# Altium integrated library Infineon_Power_Motor_Driver.IntLib: 100 symbols (part 7 of 7)
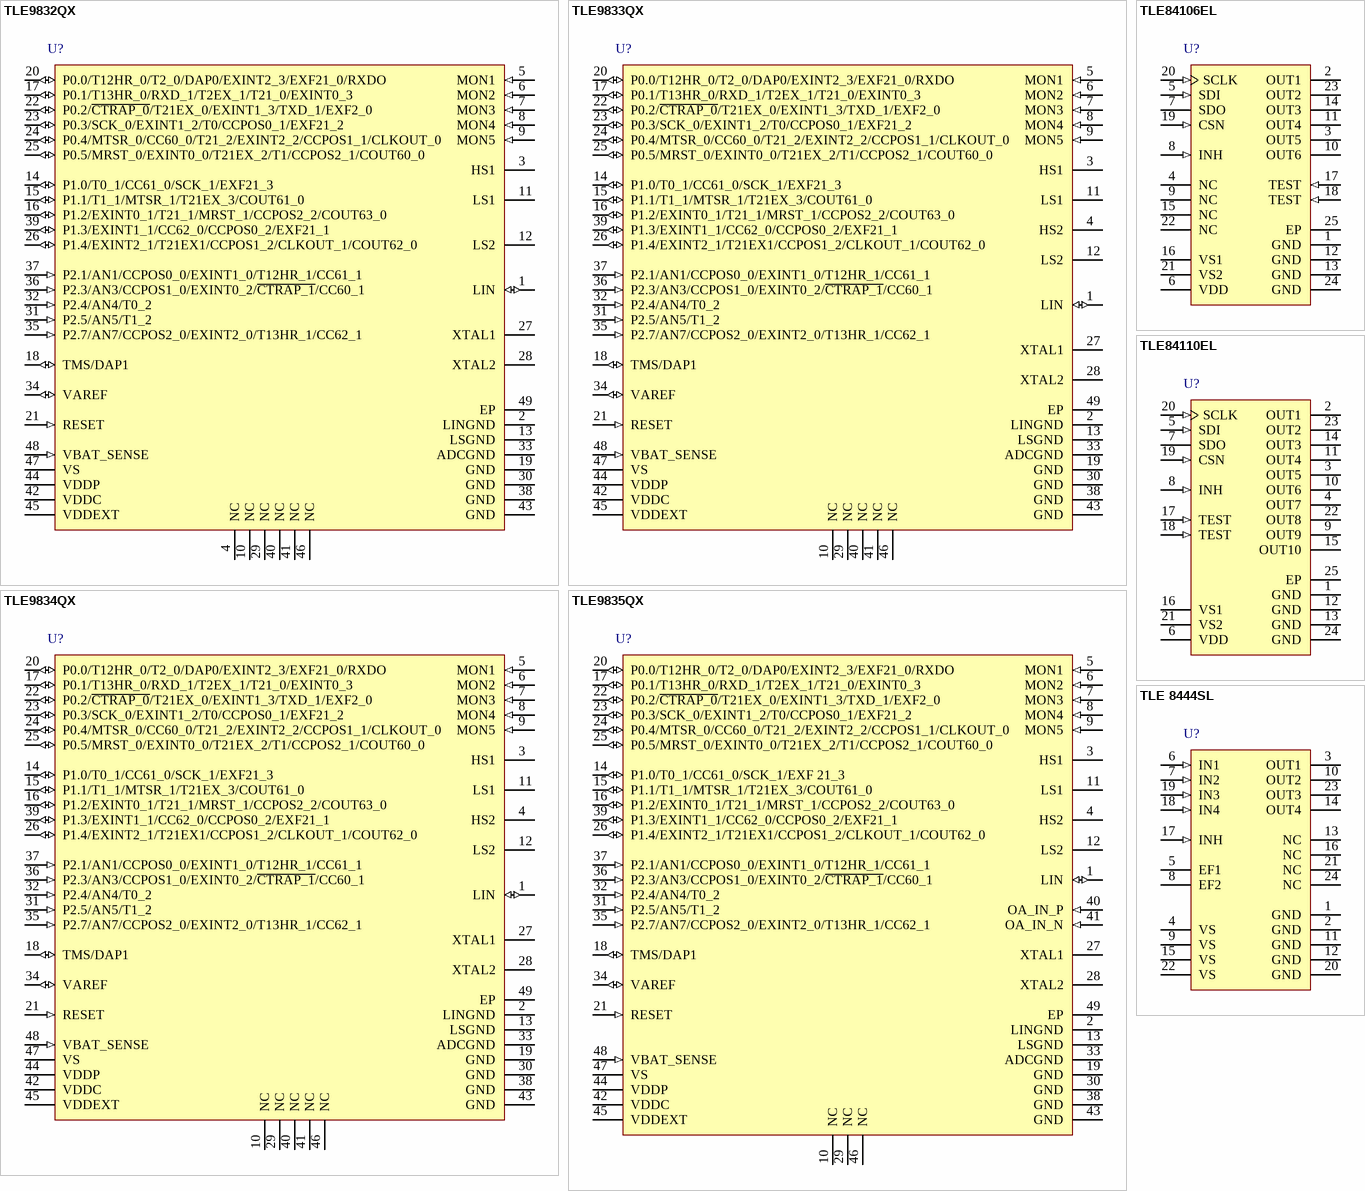
[diagram p10: symbols TLE9832QX to TLE 8444SL]

## TLE9835QX
designator U?
Microcontroller with LIN and Power Switches for Automotive Application, 2 High Side Switches, 11 GPIO, VQFN-48-29, Reel, Green; Manufacturer: Infineon; PartNumber: TLE9835QX; GPIO: 11; Frequency (f): 40 MHz; Green: TRUE; SOLID FLASH: 64 kByte; DatasheetVersion: Rev. 1.0; PackageVersion: Mar-12; PackageReference: VQFN-48-29; PackageDescription: 48-Pin Plastic (Green) Very Thin Profile Quad Flat Non Leaded Package, 7 x 7 mm Body, 0.5 mm Pitch; Halogen-free: TRUE; Packing: Reel; Mounting Technology: Surface Mount; ComponentLink1Description: Manufacturer URL; ComponentLink1URL: http://www.infineon.com/; ComponentLink2Description: Datasheet; ComponentLink2URL: http://www.infineon.com/dgdl/TLE9835QX-Data-Sheet-10-Infineon.pdf?folderId=db3a304316f66ee801178237ed131de3&fileId=db3a304339536e1401396d3dba642155&location=en.Products.Automotive_ICs.Embedded_Power_ICs_.DATASHEET.TLE9835QX-Data-Sheet-10-Infineon.pdf; ComponentLink3Description: Package Specification; ComponentLink3URL: http://www.infineon.com/dgdl/TLE9832-2-Data-Sheet-11-Infineon.pdf?folderId=db3a304316f66ee801178237ed131de3&fileId=db3a30433784a0400137a1c845733cec&location=en.Products.Automotive_ICs.Embedded_Power_ICs_.DATASHEET.TLE9832-2-Data-Sheet-11-Infineon.pdf
footprint INF-VQFN-48-29_N (QFN, 48-Leads, Body 7x7mm, Pitch 0.5mm, Thermal Pad 5.2x5.2mm, IPC Medium Density)
footprint INF-VQFN-48-29_L (QFN, 48-Leads, Body 7x7mm, Pitch 0.5mm, Thermal Pad 5.2x5.2mm, IPC High Density)
footprint INF-VQFN-48-29_M (QFN, 48-Leads, Body 7x7mm, Pitch 0.5mm, Thermal Pad 5.2x5.2mm, IPC Low Density)
pins: 1 LIN (io) "LIN bus interface input/output", 2 LINGND (power) "LIN ground", 3 HS1 (power) "High Side Switch output 1", 4 HS2 (power) "High Side Switch output 2", 5 MON1 (in) "High Voltage Monitor Input 1", 6 MON2 (in) "High Voltage Monitor Input 2", 7 MON3 (in) "High Voltage Monitor Input 3", 8 MON4 (in) "High Voltage Monitor Input 4", 9 MON5 (in) "High Voltage Monitor Input 5", 10 NC "Not connected - can be connected to GND", 11 LS1 (power) "Low Side Switch output 1", 12 LS2 (power) "Low Side Switch output 2", 13 LSGND (power) "Low Side ground LS1, LS2", 14 P1.0/T0_1/CC61_0/SCK_1/EXF 21_3 (io), 15 P1.1/T1_1/MTSR_1/T21EX_3/COUT61_0 (io), 16 P1.2/EXINT0_1/T21_1/MRST_1/CCPOS2_2/COUT63_0 (io), 17 P0.1/T13HR_0/RXD_1/T2EX_1/T21_0/EXINT0_3 (io), 18 TMS/DAP1 (io), 19 GND (power) "Core supply ground; analog supply ground", 20 P0.0/T12HR_0/T2_0/DAP0/EXINT2_3/EXF21_0/RXDO (io), 21 RESET (in) "Reset input, not available during Sleep Mode", 22 P0.2/~{CTRAP_0}/T21EX_0/EXINT1_3/TXD_1/EXF2_0 (io), 23 P0.3/SCK_0/EXINT1_2/T0/CCPOS0_1/EXF21_2 (io), 24 P0.4/MTSR_0/CC60_0/T21_2/EXINT2_2/CCPOS1_1/CLKOUT_0 (io), 25 P0.5/MRST_0/EXINT0_0/T21EX_2/T1/CCPOS2_1/COUT60_0 (io), 26 P1.4/EXINT2_1/T21EX1/CCPOS1_2/CLKOUT_1/COUT62_0 (io), 27 XTAL1 "External oscillator input", 28 XTAL2 "External oscillator output", 29 NC "Not connected - can be connected to GND", 30 GND (power) "Core supply ground; analog supply ground", 31 P2.5/AN5/T1_2 (in), 32 P2.4/AN4/T0_2 (in), 33 ADCGND (power) "Analog supply ground for ADC1", 34 VAREF (io) "5V ADC1 reference voltage", 35 P2.7/AN7/CCPOS2_0/EXINT2_0/T13HR_1/CC62_1 (in), 36 P2.3/AN3/CCPOS1_0/EXINT0_2/~{CTRAP_1}/CC60_1 (in), 37 P2.1/AN1/CCPOS0_0/EXINT1_0/T12HR_1/CC61_1 (in), 38 GND (power) "Core supply ground; analog supply ground", 39 P1.3/EXINT1_1/CC62_0/CCPOS0_2/EXF21_1 (io), 40 OA_IN_P (in) "Positive operational amplifier input", 41 OA_IN_N (in) "Negative operational amplifier input", 42 VDDC (power) "Core supply (1.5 V during Active Mode, 0.9 V during Stop Mode). Do not connect external loads. For buffer/bypass capacitor.", 43 GND (power) "Core supply ground; analog supply ground", 44 VDDP (power) "I/O port supply (5.0 V). Do not connect external loads. For buffer and bypass capacitors.", 45 VDDEXT (power) "External voltage supply output (5.0 V, 20 mA)", 46 NC "Not connected - can be connected to GND", 47 VS (power) "Battery supply input", 48 VBAT_SENSE (in) "Battery supply voltage sense input", 49 EP (power)

## TLE84106EL
designator U?
Hex-Half-Bridge Driver IC, -40 to 150 degC, PG-SSOP-24-4, Reel, Green; Manufacturer: Infineon; PartNumber: TLE84106EL; Green: TRUE; Group: Multi Half Bridges; IPeak: 6 x 0.8; Iq: 6 x 0.5; Iq (typ): 2 uA; Operating Range: 7 to 18 V; Protect: SC, OT, UV, OV, OL; DatasheetVersion: Rev. 1.0; PackageVersion: Oct-12; PackageReference: PG-SSOP-24-4; PackageDescription: 24-Pin Plastic (Green) Shrink Small Outline Package, 8.65 x 3.9 mm Body, 0.65 mm Pitch; Halogen-free: TRUE; Inhibit: TRUE; Packing: Reel; Technology: BCD; Mounting Technology: Surface Mount; ComponentLink1Description: Manufacturer URL; ComponentLink1URL: http://www.infineon.com/; ComponentLink2Description: Datasheet; ComponentLink2URL: http://www.infineon.com/dgdl/Final_DS_TLE84106EL_v1.0_270410.pdf?folderId=db3a3043156fd5730116144c5d101c30&fileId=db3a304330f6860601311800938744ca&location=en.Products.Automotive_ICs.Motor_Drivers__Automotive_.Integrated_Smart_Power_Motor_Drivers.DATASHEET.Final_DS_TLE84106EL_v1.0_270410.pdf; ComponentLink3Description: Package Specification; ComponentLink3URL: http://www.infineon.com/dgdl/TLE8088EM_DS_10.pdf?folderId=db3a30431b3e89eb011bb632994f065b&fileId=db3a30433a047ba0013a446e76be0bbb&location=en.Products.Automotive_ICs.Powertrain_ICs.Power_Interface_Products_for_Motorcycle_and_Small_Engines.DATASHEET.TLE8088EM_DS_10.pdf
footprint INF-PG-SSOP-24-4_N (SOP, 24-Leads, Body 8.65x3.9mm, Pitch 0.65mm, Thermal Pad 6.65x2.9mm, IPC Medium Density)
footprint INF-PG-SSOP-24-4_L (SOP, 24-Leads, Body 8.65x3.9mm, Pitch 0.65mm, Thermal Pad 6.65x2.9mm, IPC High Density)
footprint INF-PG-SSOP-24-4_M (SOP, 24-Leads, Body 8.65x3.9mm, Pitch 0.65mm, Thermal Pad 6.65x2.9mm, IPC Low Density)
pins: 1 GND (power) "Ground", 2 OUT1 (power) "Power Half-Bridge 1", 3 OUT5 (power) "Power Half-Bridge 5", 4 NC "Not Connected. This pin can either be left open or connected to ground", 5 SDI (in) "Serial-Data-Input", 6 VDD (power) "Logic Supply Voltage", 7 SDO (hiz) "Serial-Data-Output", 8 INH (in) "Inhibit input with internal pull-down; Place device in standby mode by pulling the INH line LOW", 9 NC "Not Connected. This pin can either be left open or connected to ground", 10 OUT6 (power) "Power Half-Bridge 6", 11 OUT4 (power) "Power Half-Bridge 4", 12 GND (power) "Ground", 13 GND (power) "Ground", 14 OUT3 (power) "Power Half-Bridge 3", 15 NC "Not Connected. This pin can either be left open or connected to ground", 16 VS1 (power) "Power Supply Voltage for Group 1 supplying current to OUT 3, OUT 4, OUT 6.", 17 TEST (in) "Test input with internal pull down. Used for production test only. This pin should be left open or connected to ground on board.", 18 TEST (in) "Test input with internal pull down. Used for production test only. This pin should be left open or connected to ground on board.", 19 CSN (in) "Chip-Select-Not-Input", 20 SCLK (in) "Serial Clock Input", 21 VS2 (power) "Power Supply Voltage for Group 2 supplying current to OUT 1, OUT 2, OUT 5.", 22 NC "Not Connected. This pin can either be left open or connected to ground", 23 OUT2 (power) "Power Half-Bridge 2", 24 GND (power) "Ground", 25 EP "Exposed Die Pad; For cooling purposes only; Do not use as electrical ground"

## TLE84110EL
designator U?
Deca-Half-Bridge Driver IC, -40 to 150 degC, PG-SSOP-24-4, Reel, Green; Manufacturer: Infineon; PartNumber: TLE84110EL; Green: TRUE; Group: Multi Half Bridges; IPeak: 10 x 0.8; Iq: 6 x 0.5; Iq (typ): 2 uA; Operating Range: 7 to 18 V; Protect: SC, OT, UV, OV, OL; DatasheetVersion: Rev. 1.0; PackageVersion: Oct-12; PackageReference: PG-SSOP-24-4; PackageDescription: 24-Pin Plastic (Green) Shrink Small Outline Package, 8.65 x 3.9 mm Body, 0.65 mm Pitch; Halogen-free: TRUE; Inhibit: TRUE; Packing: Reel; Technology: BCD; Mounting Technology: Surface Mount; ComponentLink1Description: Manufacturer URL; ComponentLink1URL: http://www.infineon.com/; ComponentLink2Description: Datasheet; ComponentLink2URL: http://www.infineon.com/dgdl/Final_DS_TLE84110EL_v1.0_270410.pdf?folderId=db3a3043156fd5730116144c5d101c30&fileId=db3a304330f686060131180eb26144dc&location=en.Products.Automotive_ICs.Motor_Drivers__Automotive_.Integrated_Smart_Power_Motor_Drivers.DATASHEET.Final_DS_TLE84110EL_v1.0_270410.pdf; ComponentLink3Description: Package Specification; ComponentLink3URL: http://www.infineon.com/dgdl/TLE8088EM_DS_10.pdf?folderId=db3a30431b3e89eb011bb632994f065b&fileId=db3a30433a047ba0013a446e76be0bbb&location=en.Products.Automotive_ICs.Powertrain_ICs.Power_Interface_Products_for_Motorcycle_and_Small_Engines.DATASHEET.TLE8088EM_DS_10.pdf
footprint INF-PG-SSOP-24-4_N (SOP, 24-Leads, Body 8.65x3.9mm, Pitch 0.65mm, Thermal Pad 6.65x2.9mm, IPC Medium Density)
footprint INF-PG-SSOP-24-4_L (SOP, 24-Leads, Body 8.65x3.9mm, Pitch 0.65mm, Thermal Pad 6.65x2.9mm, IPC High Density)
footprint INF-PG-SSOP-24-4_M (SOP, 24-Leads, Body 8.65x3.9mm, Pitch 0.65mm, Thermal Pad 6.65x2.9mm, IPC Low Density)
pins: 1 GND (power) "Ground", 2 OUT1 (power) "Power Half-Bridge 1", 3 OUT5 (power) "Power Half-Bridge 5", 4 OUT7 (power) "Power Half-Bridge 7", 5 SDI (in) "Serial-Data-Input", 6 VDD (power) "Logic Supply Voltage", 7 SDO (hiz) "Serial-Data-Output", 8 INH (in) "Inhibit input with internal pull-down; Place device in standby mode by pulling the INH line LOW", 9 OUT9 (power) "Power Half-Bridge 9", 10 OUT6 (power) "Power Half-Bridge 6", 11 OUT4 (power) "Power Half-Bridge 4", 12 GND (power) "Ground", 13 GND (power) "Ground", 14 OUT3 (power) "Power Half-Bridge 3", 15 OUT10 (power) "Power Half-Bridge 15", 16 VS1 (power) "Power Supply Voltage for Group 1 supplying current to OUT 3, OUT 4, OUT 6.", 17 TEST (in) "Test input with internal pull down. Used for production test only. This pin should be left open or connected to ground on board.", 18 TEST (in) "Test input with internal pull down. Used for production test only. This pin should be left open or connected to ground on board.", 19 CSN (in) "Chip-Select-Not-Input", 20 SCLK (in) "Serial Clock Input", 21 VS2 (power) "Power Supply Voltage for Group 2 supplying current to OUT 1, OUT 2, OUT 5.", 22 OUT8 (power) "Power Half-Bridge 8", 23 OUT2 (power) "Power Half-Bridge 2", 24 GND (power) "Ground", 25 EP "Exposed Die Pad; For cooling purposes only; Do not use as electrical ground"

## TLE 8444SL
designator U?
Quad Half-Bridge Driver IC, -40 to 150 degC, PG-SSOP-24-7, Reel, Green; Manufacturer: Infineon; PartNumber: TLE 8444SL; Green: TRUE; Group: Stepper Motor Driver; IPeak: 4 x 0.8 A; Iq: 4 x 0.5 A; Iq (typ): 1 uA; Operating Range: 8 to 18 V; Protect: OT, OV, OL, OC; DatasheetVersion: Rev. 1.1; PackageVersion: Apr-10; PackageReference: PG-SSOP-24-7; PackageDescription: 24-Pin Plastic (Green) Shrink Small Outline Package, 8.65 x 3.9 mm Body, 0.65 mm Pitch; Halogen-free: FALSE; Inhibit: TRUE; Packing: Reel; Technology: BCD; Mounting Technology: Surface Mount; ComponentLink1Description: Manufacturer URL; ComponentLink1URL: http://www.infineon.com/; ComponentLink2Description: Datasheet; ComponentLink2URL: http://www.infineon.com/dgdl/Final_DS_TLE8444SL_Jul2009_V1.10.pdf?folderId=db3a30431ff98815012060aedcd46179&fileId=db3a30431ff98815012060afb566617a&location=en.Products.Automotive_ICs.Motor_Drivers__Automotive_.Integrated_Smart_Power_Motor_Drivers.DATASHEET.Final_DS_TLE8444SL_Jul2009_V1.10.pdf; ComponentLink3Description: Package Specification; ComponentLink3URL: http://www.infineon.com/dgdl/PG-SSOP-24-5%2C-6%2C-7-Package_Overview.pdf?folderId=db3a304327b897500127f7a03f7d6554&fileId=db3a304327b89750012817aa493a1a04
footprint INF-PG-SSOP-24-7_N (SOP, 24-Leads, Body 8.65x3.9mm, Pitch 0.65mm, IPC Medium Density)
footprint INF-PG-SSOP-24-7_L (SOP, 24-Leads, Body 8.65x3.9mm, Pitch 0.65mm, IPC High Density)
footprint INF-PG-SSOP-24-7_M (SOP, 24-Leads, Body 8.65x3.9mm, Pitch 0.65mm, IPC Low Density)
pins: 1 GND (power) "Ground; Signal ground; All GND pins must be externally connected together to the common GND potential", 2 GND (power) "Ground; Signal ground; All GND pins must be externally connected together to the common GND potential", 3 OUT1 (power) "Power Output of Half-bridge 1; Short circuit protected; with integrated free-wheeling diodes", 4 VS (power) "Power Supply Voltage; All VS pins must be externally connected together to the Battery Voltage with Reverse protection Diode, buffer capacitance and Filter against EMC. See Application Diagram.", 5 EF1 (oc) "Error Flag 1 (Diagnosis Output); Open drain by default; Low = error", 6 IN1 (in) "Input Channel of Half-bridge 1; Controls OUT1, Non-inverting Intput with internal Pull Down", 7 IN2 (in) "Input Channel of Half-bridge 2; Controls OUT2, Inverting Intput with internal Pull Up", 8 EF2 (oc) "Error Flag 2 (Diagnosis Output); Open drain by default; Low = error", 9 VS (power) "Power Supply Voltage; All VS pins must be externally connected together to the Battery Voltage with Reverse protection Diode, buffer capacitance and Filter against EMC. See Application Diagram.", 10 OUT2 (power) "Power Output of Half-bridge 2; Short circuit protected; with integrated free-wheeling diodes", 11 GND (power) "Ground; Signal ground; All GND pins must be externally connected together to the common GND potential", 12 GND (power) "Ground; Signal ground; All GND pins must be externally connected together to the common GND potential", 13 NC "Not Connected", 14 OUT4 (power) "Power Output of Half-bridge 4; Short circuit protected; with integrated free-wheeling diodes", 15 VS (power) "Power Supply Voltage; All VS pins must be externally connected together to the Battery Voltage with Reverse protection Diode, buffer capacitance and Filter against EMC. See Application Diagram.", 16 NC "Not Connected", 17 INH (in) "Inhibit Input; Low = Device in sleep mode", 18 IN4 (in) "Input Channel of Half-bridge 4; Controls OUT4, Inverting Input with internal Pull Up", 19 IN3 (in) "Input Channel of Half-bridge 3; Controls OUT3, Non-inverting Intput with internal Pull Down", 20 GND (power) "Ground; Signal ground; All GND pins must be externally connected together to the common GND potential", 21 NC "Not Connected", 22 VS (power) "Power Supply Voltage; All VS pins must be externally connected together to the Battery Voltage with Reverse protection Diode, buffer capacitance and Filter against EMC. See Application Diagram.", 23 OUT3 (power) "Power Output of Half-bridge 3; Short-circuit protected; with integrated free-wheeling diodes", 24 NC "Not Connected"